# Altium schematic symbol library Schlib_Altera.SchLib: 17 symbols (part 4 of 4)
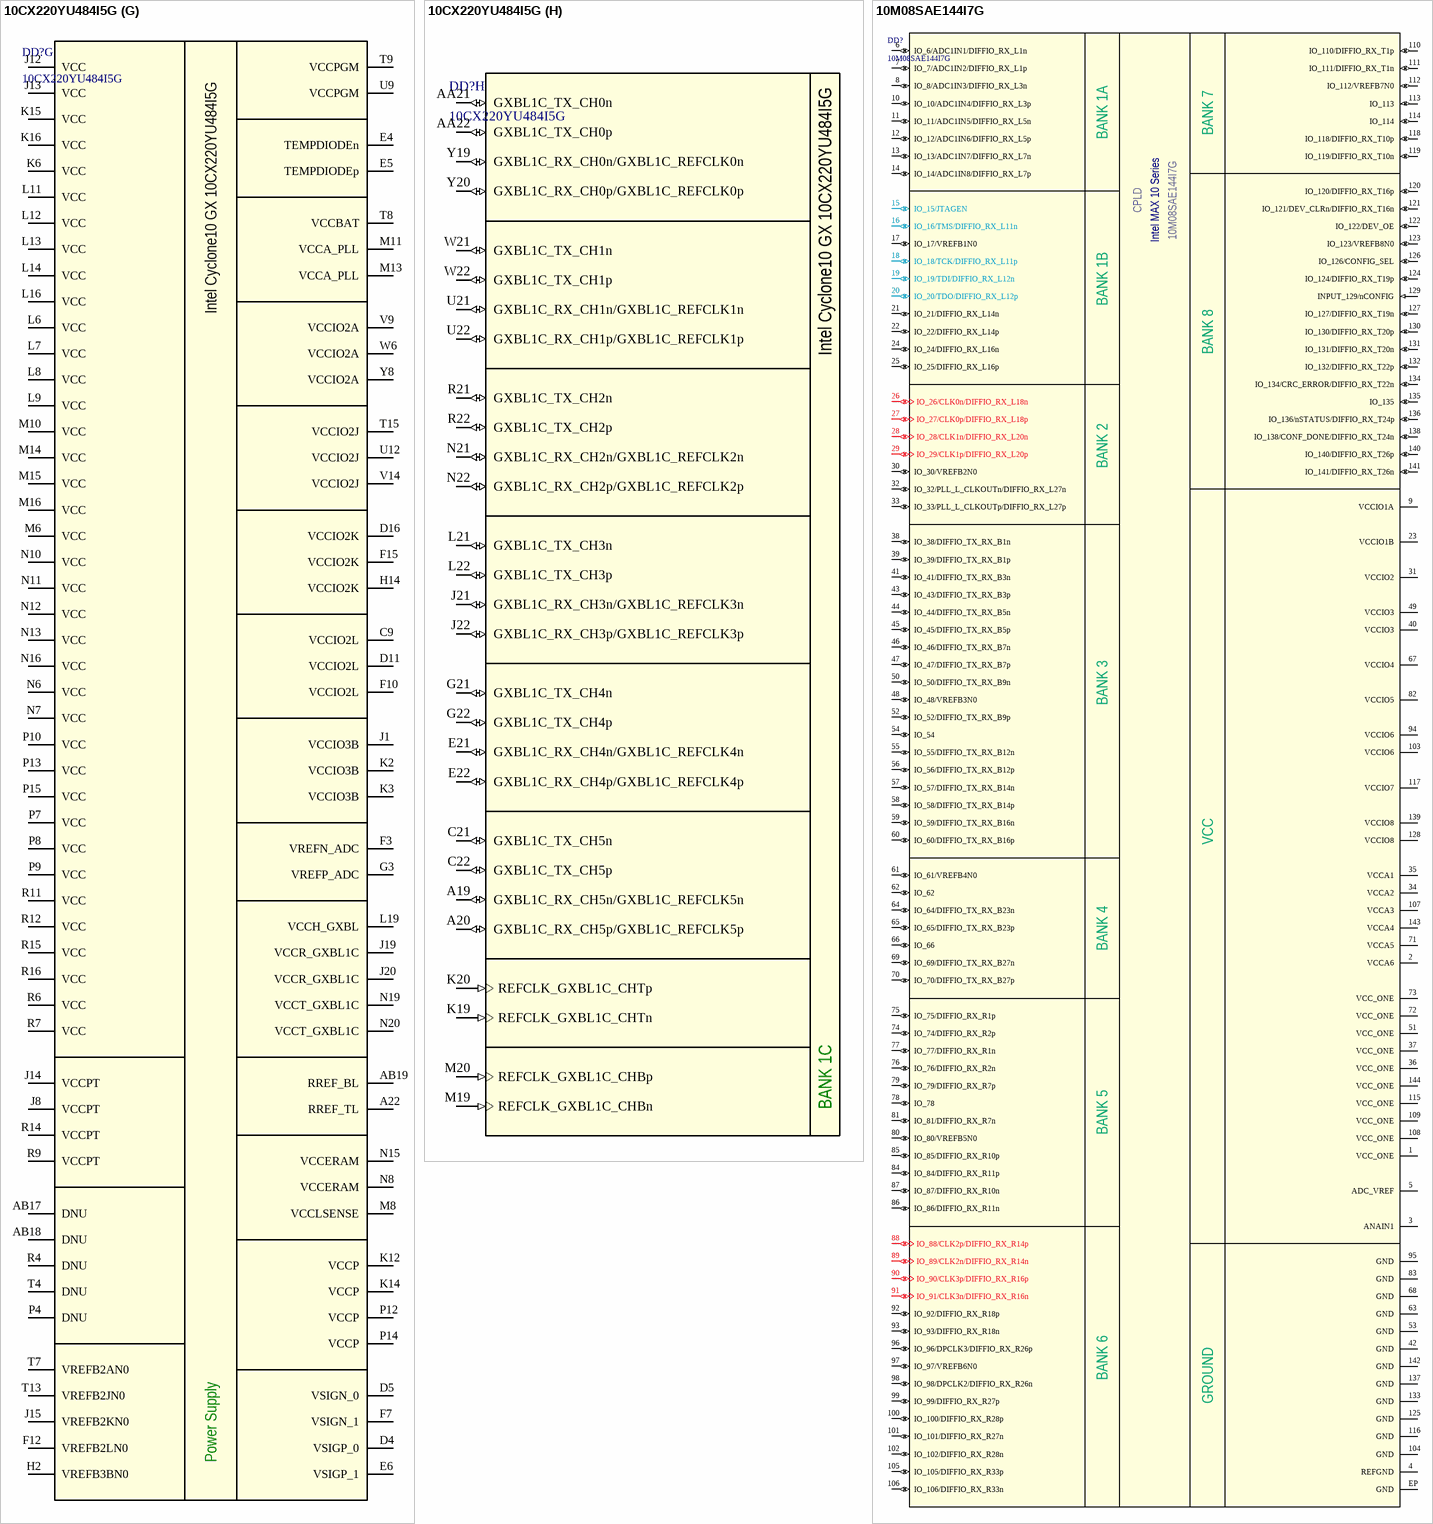
[diagram p27: symbols 10CX220YU484I5G to 10M08SAE144I7G]

## 10M08SAE144I7G
designator DD?
CPLD MAX 10 Series 8000 LEs; Manufacturer: Altera/Intel; Part Number: 10M08SAE144I7G; Package: EQFP-144
footprint LQFP-144EP (TSQFP, 144-Leads, Body 20,00x20,00mm, Pitch 0,50mm, IPC Medium Density)
pins: 1 VCC_ONE (power), 2 VCCA6 (power), 3 ANAIN1 (power), 4 REFGND (power), 5 ADC_VREF (power), 6 IO_6/ADC1IN1/DIFFIO_RX_L1n (io), 7 IO_7/ADC1IN2/DIFFIO_RX_L1p (io), 8 IO_8/ADC1IN3/DIFFIO_RX_L3n (io), 9 VCCIO1A (power), 10 IO_10/ADC1IN4/DIFFIO_RX_L3p (io), 11 IO_11/ADC1IN5/DIFFIO_RX_L5n (io), 12 IO_12/ADC1IN6/DIFFIO_RX_L5p (io), 13 IO_13/ADC1IN7/DIFFIO_RX_L7n (io), 14 IO_14/ADC1IN8/DIFFIO_RX_L7p (io), 15 IO_15/JTAGEN (io), 16 IO_16/TMS/DIFFIO_RX_L11n (io), 17 IO_17/VREFB1N0 (io), 18 IO_18/TCK/DIFFIO_RX_L11p (io), 19 IO_19/TDI/DIFFIO_RX_L12n (io), 20 IO_20/TDO/DIFFIO_RX_L12p (io), 21 IO_21/DIFFIO_RX_L14n (io), 22 IO_22/DIFFIO_RX_L14p (io), 23 VCCIO1B (power), 24 IO_24/DIFFIO_RX_L16n (io), 25 IO_25/DIFFIO_RX_L16p (io), 26 IO_26/CLK0n/DIFFIO_RX_L18n (io), 27 IO_27/CLK0p/DIFFIO_RX_L18p (io), 28 IO_28/CLK1n/DIFFIO_RX_L20n (io), 29 IO_29/CLK1p/DIFFIO_RX_L20p (io), 30 IO_30/VREFB2N0 (io), 31 VCCIO2 (power), 32 IO_32/PLL_L_CLKOUTn/DIFFIO_RX_L27n (io), 33 IO_33/PLL_L_CLKOUTp/DIFFIO_RX_L27p (io), 34 VCCA2 (power), 35 VCCA1 (power), 36 VCC_ONE (power), 37 VCC_ONE (power), 38 IO_38/DIFFIO_TX_RX_B1n (io), 39 IO_39/DIFFIO_TX_RX_B1p (io), 40 VCCIO3 (power), 41 IO_41/DIFFIO_TX_RX_B3n (io), 42 GND (power), 43 IO_43/DIFFIO_TX_RX_B3p (io), 44 IO_44/DIFFIO_TX_RX_B5n (io), 45 IO_45/DIFFIO_TX_RX_B5p (io), 46 IO_46/DIFFIO_TX_RX_B7n (io), 47 IO_47/DIFFIO_TX_RX_B7p (io), 48 IO_48/VREFB3N0 (io), 49 VCCIO3 (power), 50 IO_50/DIFFIO_TX_RX_B9n (io), 51 VCC_ONE (power), 52 IO_52/DIFFIO_TX_RX_B9p (io), 53 GND (power), 54 IO_54 (io), 55 IO_55/DIFFIO_TX_RX_B12n (io), 56 IO_56/DIFFIO_TX_RX_B12p (io), 57 IO_57/DIFFIO_TX_RX_B14n (io), 58 IO_58/DIFFIO_TX_RX_B14p (io), 59 IO_59/DIFFIO_TX_RX_B16n (io), 60 IO_60/DIFFIO_TX_RX_B16p (io), 61 IO_61/VREFB4N0 (io), 62 IO_62 (io), 63 GND (power), 64 IO_64/DIFFIO_TX_RX_B23n (io), 65 IO_65/DIFFIO_TX_RX_B23p (io), 66 IO_66 (io), 67 VCCIO4 (power), 68 GND (power), 69 IO_69/DIFFIO_TX_RX_B27n (io), 70 IO_70/DIFFIO_TX_RX_B27p (io), 71 VCCA5 (power), 72 VCC_ONE (power), 73 VCC_ONE (power), 74 IO_74/DIFFIO_RX_R2p (io), 75 IO_75/DIFFIO_RX_R1p (io), 76 IO_76/DIFFIO_RX_R2n (io), 77 IO_77/DIFFIO_RX_R1n (io), 78 IO_78 (io), 79 IO_79/DIFFIO_RX_R7p (io), 80 IO_80/VREFB5N0 (io), 81 IO_81/DIFFIO_RX_R7n (io), 82 VCCIO5 (power), 83 GND (power), 84 IO_84/DIFFIO_RX_R11p (io), 85 IO_85/DIFFIO_RX_R10p (io), 86 IO_86/DIFFIO_RX_R11n (io), 87 IO_87/DIFFIO_RX_R10n (io), 88 IO_88/CLK2p/DIFFIO_RX_R14p (io), 89 IO_89/CLK2n/DIFFIO_RX_R14n (io), 90 IO_90/CLK3p/DIFFIO_RX_R16p (io), 91 IO_91/CLK3n/DIFFIO_RX_R16n (io), 92 IO_92/DIFFIO_RX_R18p (io), 93 IO_93/DIFFIO_RX_R18n (io), 94 VCCIO6 (power), 95 GND (power), 96 IO_96/DPCLK3/DIFFIO_RX_R26p (io), 97 IO_97/VREFB6N0 (io), 98 IO_98/DPCLK2/DIFFIO_RX_R26n (io), 99 IO_99/DIFFIO_RX_R27p (io), 100 IO_100/DIFFIO_RX_R28p (io), 101 IO_101/DIFFIO_RX_R27n (io), 102 IO_102/DIFFIO_RX_R28n (io), 103 VCCIO6 (power), 104 GND (power), 105 IO_105/DIFFIO_RX_R33p (io), 106 IO_106/DIFFIO_RX_R33n (io), 107 VCCA3 (power), 108 VCC_ONE (power), 109 VCC_ONE (power), 110 IO_110/DIFFIO_RX_T1p (io), 111 IO_111/DIFFIO_RX_T1n (io), 112 IO_112/VREFB7N0 (io), 113 IO_113 (io), 114 IO_114 (io), 115 VCC_ONE (power), 116 GND (power), 117 VCCIO7 (power), 118 IO_118/DIFFIO_RX_T10p (io), 119 IO_119/DIFFIO_RX_T10n (io), 120 IO_120/DIFFIO_RX_T16p (io), 121 IO_121/DEV_CLRn/DIFFIO_RX_T16n (io), 122 IO_122/DEV_OE (io), 123 IO_123/VREFB8N0 (io), 124 IO_124/DIFFIO_RX_T19p (io), 125 GND (power), 126 IO_126/CONFIG_SEL (io), 127 IO_127/DIFFIO_RX_T19n (io), 128 VCCIO8 (power), 129 INPUT_129/nCONFIG (in), 130 IO_130/DIFFIO_RX_T20p (io), 131 IO_131/DIFFIO_RX_T20n (io), 132 IO_132/DIFFIO_RX_T22p (io), 133 GND (power), 134 IO_134/CRC_ERROR/DIFFIO_RX_T22n (io), 135 IO_135 (io), 136 IO_136/nSTATUS/DIFFIO_RX_T24p (io), 137 GND (power), 138 IO_138/CONF_DONE/DIFFIO_RX_T24n (io), 139 VCCIO8 (power), 140 IO_140/DIFFIO_RX_T26p (io), 141 IO_141/DIFFIO_RX_T26n (io), 142 GND (power), 143 VCCA4 (power), 144 VCC_ONE (power), EP GND (power)
text: BANK 1A; BANK 7; CPLD; Intel MAX 10 Series; BANK 1B; BANK 8; BANK 2; BANK 3; VCC; BANK 4; BANK 5; BANK 6; GROUND

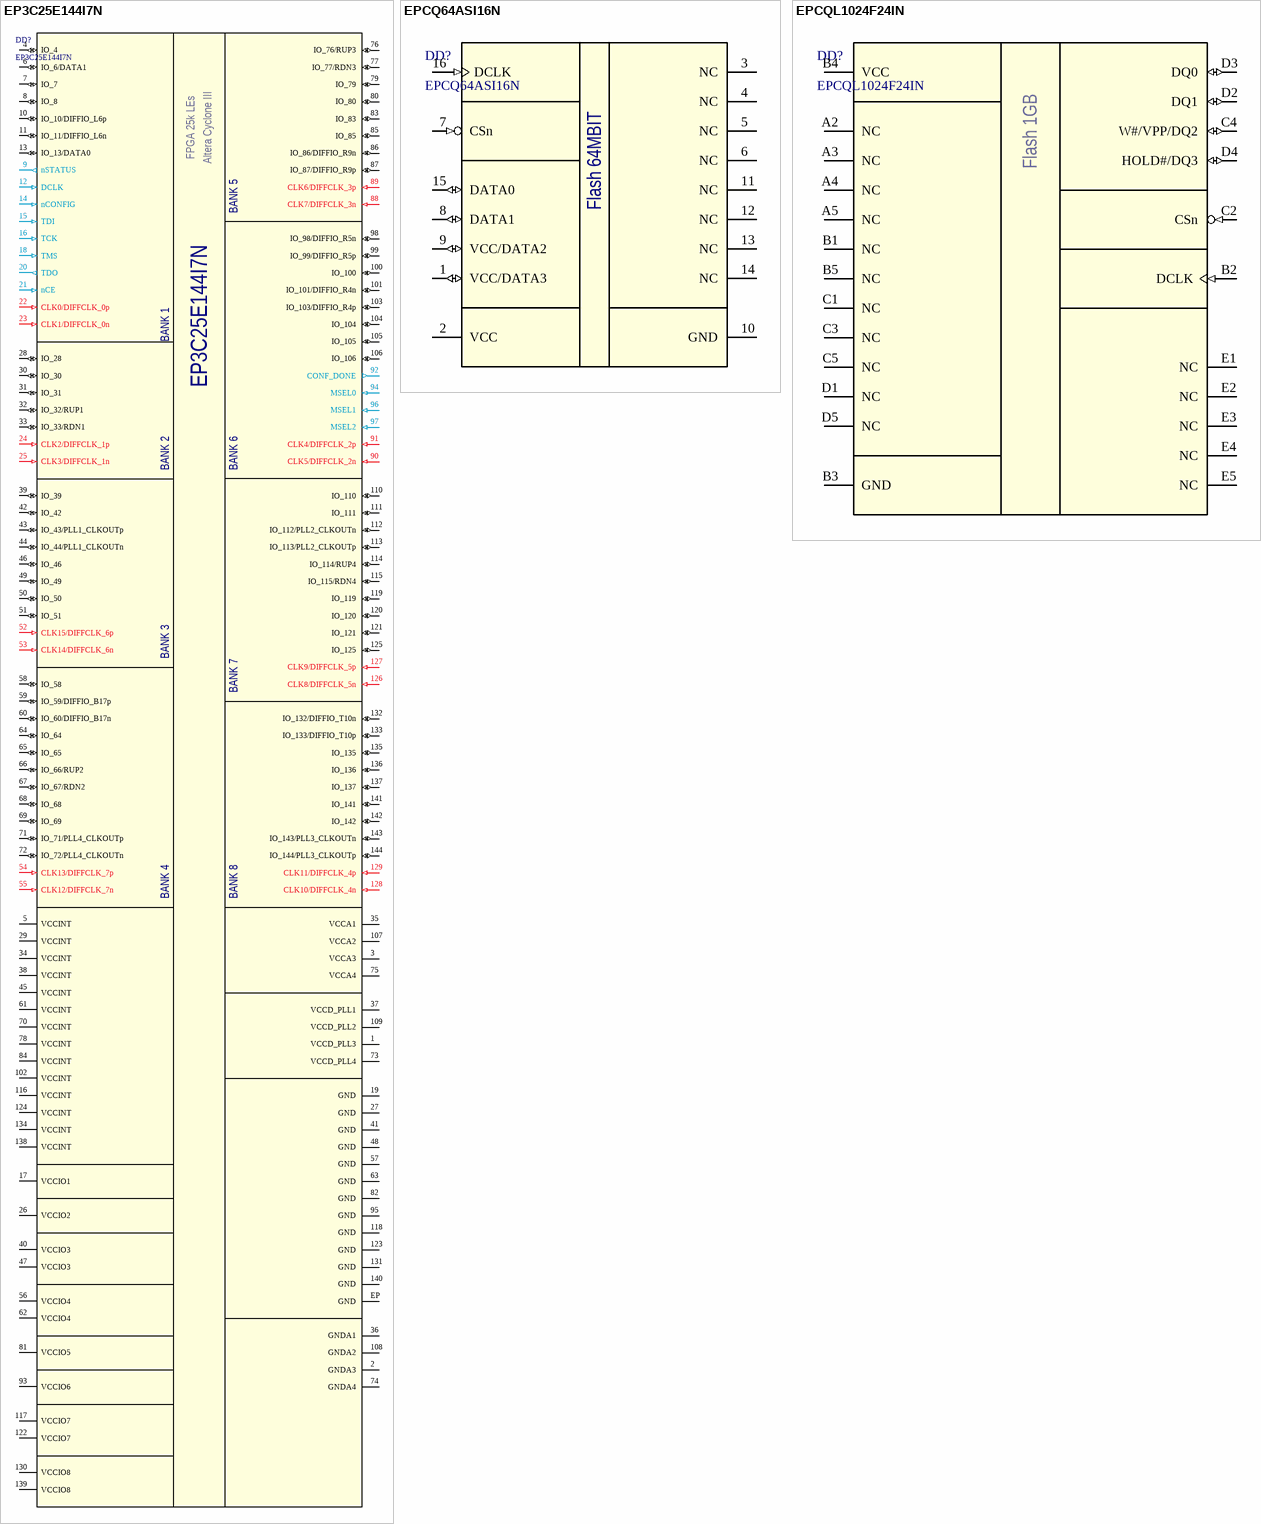
[diagram p23: symbols EP3C25E144I7N to EPCQL1024F24IN]

## EP3C25E144I7N
designator DD?
Altera Cyclone III FPGA with 25k LEs; Manufacturer: Altera/Intel; Part Number: EP3C25E144I7N; Package: LQFP-144 (with Exposed Pad)
footprint LQFP-144EP (TSQFP, 144-Leads, Body 20,00x20,00mm, Pitch 0,50mm, IPC Medium Density)
pins: 1 VCCD_PLL3 (power), 2 GNDA3 (power), 3 VCCA3 (power), 4 IO_4 (io), 5 VCCINT (power), 6 IO_6/DATA1 (io), 7 IO_7 (io), 8 IO_8 (io), 9 nSTATUS (out), 10 IO_10/DIFFIO_L6p (io), 11 IO_11/DIFFIO_L6n (io), 12 DCLK (in), 13 IO_13/DATA0 (io), 14 nCONFIG (in), 15 TDI (in), 16 TCK (in), 17 VCCIO1 (power), 18 TMS (in), 19 GND (power), 20 TDO (out), 21 nCE (in), 22 CLK0/DIFFCLK_0p (in), 23 CLK1/DIFFCLK_0n (in), 24 CLK2/DIFFCLK_1p (in), 25 CLK3/DIFFCLK_1n (in), 26 VCCIO2 (power), 27 GND (power), 28 IO_28 (io), 29 VCCINT (power), 30 IO_30 (io), 31 IO_31 (io), 32 IO_32/RUP1 (io), 33 IO_33/RDN1 (io), 34 VCCINT (power), 35 VCCA1 (power), 36 GNDA1 (power), 37 VCCD_PLL1 (power), 38 VCCINT (power), 39 IO_39 (io), 40 VCCIO3 (power), 41 GND (power), 42 IO_42 (io), 43 IO_43/PLL1_CLKOUTp (io), 44 IO_44/PLL1_CLKOUTn (io), 45 VCCINT (power), 46 IO_46 (io), 47 VCCIO3 (power), 48 GND (power), 49 IO_49 (io), 50 IO_50 (io), 51 IO_51 (io), 52 CLK15/DIFFCLK_6p (in), 53 CLK14/DIFFCLK_6n (in), 54 CLK13/DIFFCLK_7p (in), 55 CLK12/DIFFCLK_7n (in), 56 VCCIO4 (power), 57 GND (power), 58 IO_58 (io), 59 IO_59/DIFFIO_B17p (io), 60 IO_60/DIFFIO_B17n (io), 61 VCCINT (power), 62 VCCIO4 (power), 63 GND (power), 64 IO_64 (io), 65 IO_65 (io), 66 IO_66/RUP2 (io), 67 IO_67/RDN2 (io), 68 IO_68 (io), 69 IO_69 (io), 70 VCCINT (power), 71 IO_71/PLL4_CLKOUTp (io), 72 IO_72/PLL4_CLKOUTn (io), 73 VCCD_PLL4 (power), 74 GNDA4 (power), 75 VCCA4 (power), 76 IO_76/RUP3 (io), 77 IO_77/RDN3 (io), 78 VCCINT (power), 79 IO_79 (io), 80 IO_80 (io), 81 VCCIO5 (power), 82 GND (power), 83 IO_83 (io), 84 VCCINT (power), 85 IO_85 (io), 86 IO_86/DIFFIO_R9n (io), 87 IO_87/DIFFIO_R9p (io), 88 CLK7/DIFFCLK_3n (in), 89 CLK6/DIFFCLK_3p (in), 90 CLK5/DIFFCLK_2n (in), 91 CLK4/DIFFCLK_2p (in), 92 CONF_DONE (out), 93 VCCIO6 (power), 94 MSEL0 (in), 95 GND (power), 96 MSEL1 (in), 97 MSEL2 (in), 98 IO_98/DIFFIO_R5n (io), 99 IO_99/DIFFIO_R5p (io), 100 IO_100 (io), 101 IO_101/DIFFIO_R4n (io), 102 VCCINT (power), 103 IO_103/DIFFIO_R4p (io), 104 IO_104 (io), 105 IO_105 (io), 106 IO_106 (io), 107 VCCA2 (power), 108 GNDA2 (power), 109 VCCD_PLL2 (power), 110 IO_110 (io), 111 IO_111 (io), 112 IO_112/PLL2_CLKOUTn (io), 113 IO_113/PLL2_CLKOUTp (io), 114 IO_114/RUP4 (io), 115 IO_115/RDN4 (io), 116 VCCINT (power), 117 VCCIO7 (power), 118 GND (power), 119 IO_119 (io), 120 IO_120 (io), 121 IO_121 (io), 122 VCCIO7 (power), 123 GND (power), 124 VCCINT (power), 125 IO_125 (io), 126 CLK8/DIFFCLK_5n (in), 127 CLK9/DIFFCLK_5p (in), 128 CLK10/DIFFCLK_4n (in), 129 CLK11/DIFFCLK_4p (in), 130 VCCIO8 (power), 131 GND (power), 132 IO_132/DIFFIO_T10n (io), 133 IO_133/DIFFIO_T10p (io), 134 VCCINT (power), 135 IO_135 (io), 136 IO_136 (io), 137 IO_137 (io), 138 VCCINT (power), 139 VCCIO8 (power), 140 GND (power), 141 IO_141 (io), 142 IO_142 (io), 143 IO_143/PLL3_CLKOUTn (io), 144 IO_144/PLL3_CLKOUTp (io), EP GND (power)
text: FPGA 25k LEs; Altera Cyclone III; BANK 5; BANK 1; BANK 2; BANK 6; BANK 3; BANK 7; BANK 4; BANK 8

## EPCQ64ASI16N
designator DD?
Serial Configuration Devices for FPGA (Memory Size 64MBIT ); Manufacturer: Altera/Intel; Part Number: EPCQ64ASI16N; Package: SOIC-16
footprint SOIC-16N (SOIC, 16-Leads, Body 10.29x7.49mm, Pitch 1.27mm, IPC Medium Density)
footprint SOIC-16N(WITH SO-8, EPCS64 Only) (SOIC, 16-Leads, Body 10.29x7.49mm, Pitch 1.27mm, IPC Medium Density)
pins: 1 VCC/DATA3 (io), 2 VCC (power), 3 NC (hiz), 4 NC (hiz), 5 NC (hiz), 6 NC (hiz), 7 CSn (in), 8 DATA1 (io), 9 VCC/DATA2 (io), 10 GND (power), 11 NC (hiz), 12 NC (hiz), 13 NC (hiz), 14 NC (hiz), 15 DATA0 (io), 16 DCLK (in)
text: Flash 64MBIT

## EPCQL1024F24IN
designator DD?
Serial Configuration Devices for FPGA (Memory Size 1GB); Manufacturer: Altera/Intel; Part Number: EPCQL1024F24IN; Package: LBGA-24
footprint LBGA-24 (LBGA-24 package with 1mm pitch for EPCQL1024F24IN device)
pins: A2 NC (hiz), A3 NC (hiz), A4 NC (hiz), A5 NC (hiz), B1 NC (hiz), B2 DCLK (in), B3 GND (power), B4 VCC, B5 NC (hiz), C1 NC (hiz), C2 CSn (in), C3 NC (hiz), C4 W#/VPP/DQ2 (io), C5 NC (hiz), D1 NC (hiz), D2 DQ1 (io), D3 DQ0 (io), D4 HOLD#/DQ3 (io), D5 NC (hiz), E1 NC (hiz), E2 NC (hiz), E3 NC (hiz), E4 NC (hiz), E5 NC (hiz)
text: Flash 1GB

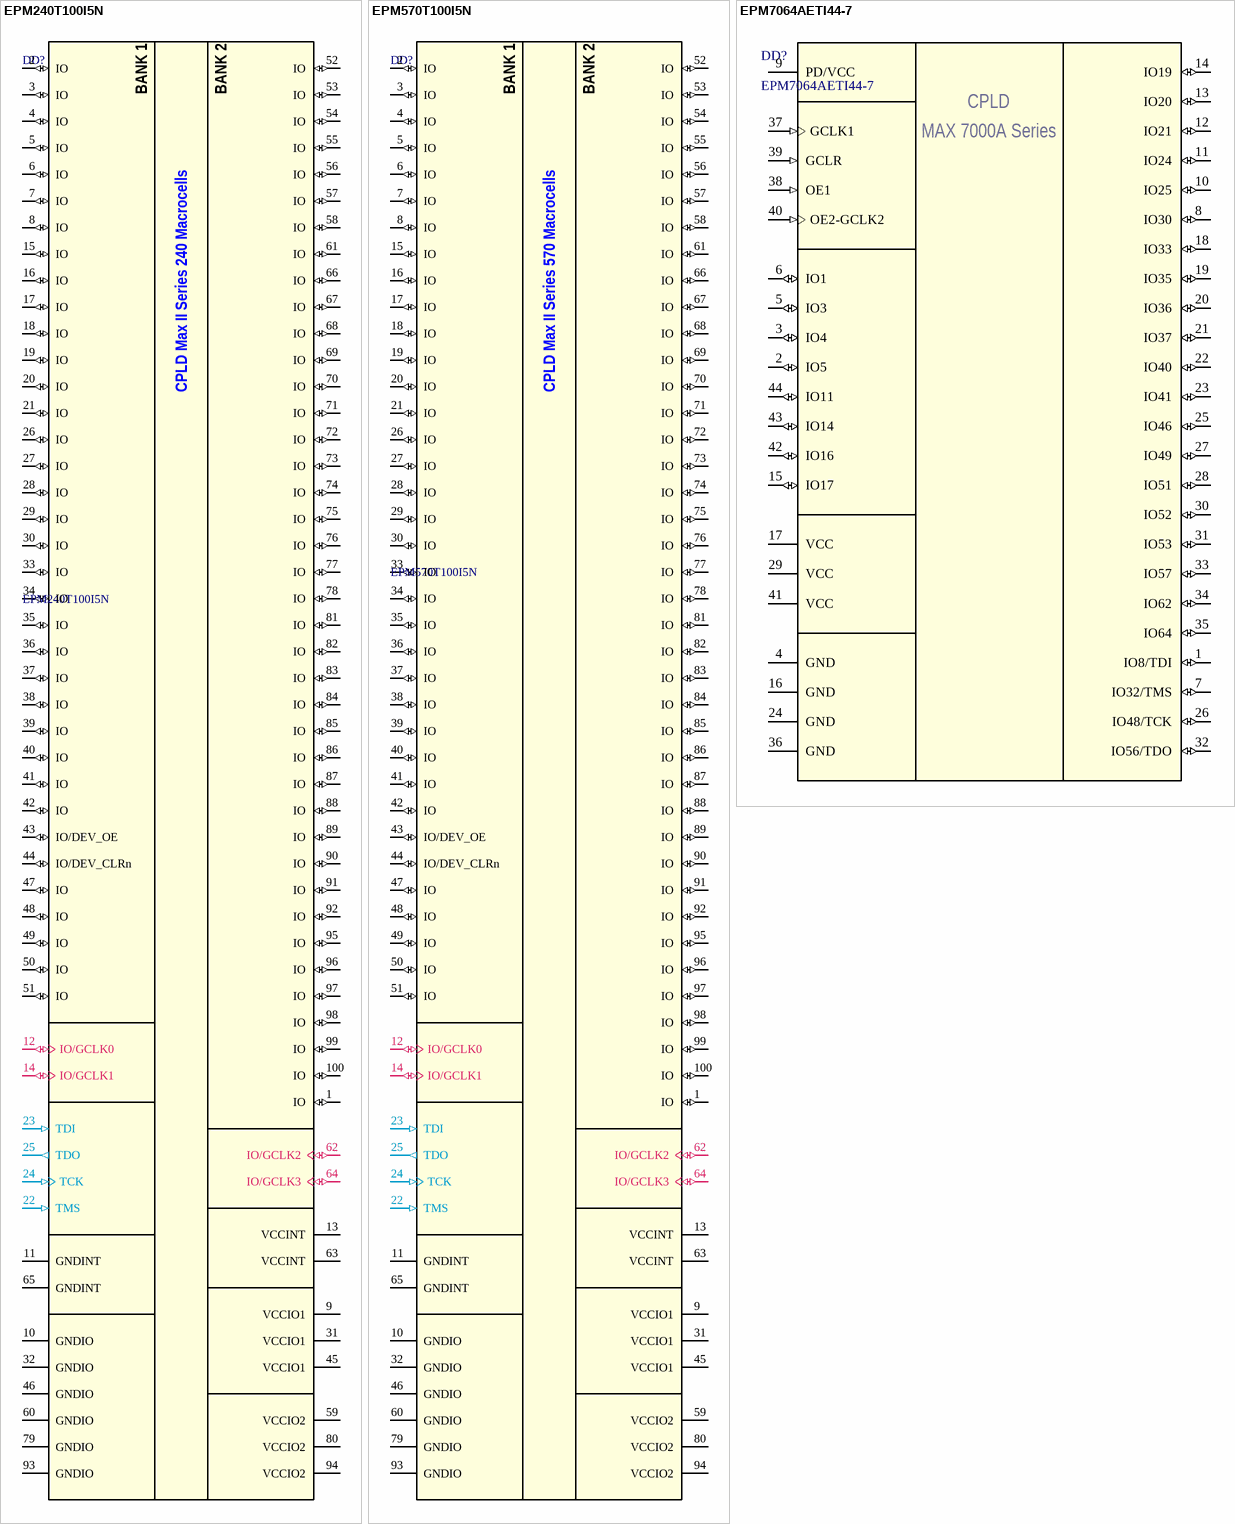
[diagram p24: symbols EPM240T100I5N to EPM7064AETI44-7]

## EPM240T100I5N
designator DD?
MAX II 3.3/2.5V CPLD, 80 IOs, 240 Logic Elements, 100-Pin Plastic TQFP, Industrial Temperature, Speed Grade 5, Pb-Free; Note: Each set of VCCIO pins can be connected to 3.3V, 2.5V, 1.8V, or 1.5V.; Note: All VCCINT pins must be connected to either 3.3V or 2.5V (but not a combination of both).; DatasheetVersion: ver1.8, Jul-2006; PackageVersion: ver16.3, Dec-2010; PackageReference: TQFP100; PackageDescription: 100-Pin Plastic Thin Quad Flat Pack (TQFP100) - Wire Bond; Code_JEDEC: MS-026-AED; ComponentLink1Description: Manufacturer URL; ComponentLink1URL: http://www.altera.com/; ComponentLink2Description: Handbook; ComponentLink2URL: http://www.altera.com/literature/hb/max2/max2_mii5v1.pdf; ComponentLink3Description: Package Specification; ComponentLink3URL: http://www.altera.com/literature/ds/dspkg.pdf; PartNumber: EPM240T100I5N
footprint TQFP100 (Thin QFP, 100-Leads, Body 14x14mm, Pitch 0.5mm, IPC Low Density)
pins: 1 IO (io), 2 IO (io), 3 IO (io), 4 IO (io), 5 IO (io), 6 IO (io), 7 IO (io), 8 IO (io), 9 VCCIO1 (power), 10 GNDIO (power), 11 GNDINT (power), 12 IO/GCLK0 (io), 13 VCCINT (power), 14 IO/GCLK1 (io), 15 IO (io), 16 IO (io), 17 IO (io), 18 IO (io), 19 IO (io), 20 IO (io), 21 IO (io), 22 TMS (in), 23 TDI (in), 24 TCK (in), 25 TDO (out), 26 IO (io), 27 IO (io), 28 IO (io), 29 IO (io), 30 IO (io), 31 VCCIO1 (power), 32 GNDIO (power), 33 IO (io), 34 IO (io), 35 IO (io), 36 IO (io), 37 IO (io), 38 IO (io), 39 IO (io), 40 IO (io), 41 IO (io), 42 IO (io), 43 IO/DEV_OE (io), 44 IO/DEV_CLRn (io), 45 VCCIO1 (power), 46 GNDIO (power), 47 IO (io), 48 IO (io), 49 IO (io), 50 IO (io), 51 IO (io), 52 IO (io), 53 IO (io), 54 IO (io), 55 IO (io), 56 IO (io), 57 IO (io), 58 IO (io), 59 VCCIO2 (power), 60 GNDIO (power), 61 IO (io), 62 IO/GCLK2 (io), 63 VCCINT (power), 64 IO/GCLK3 (io), 65 GNDINT (power), 66 IO (io), 67 IO (io), 68 IO (io), 69 IO (io), 70 IO (io), 71 IO (io), 72 IO (io), 73 IO (io), 74 IO (io), 75 IO (io), 76 IO (io), 77 IO (io), 78 IO (io), 79 GNDIO (power), 80 VCCIO2 (power), 81 IO (io), 82 IO (io), 83 IO (io), 84 IO (io), 85 IO (io), 86 IO (io), 87 IO (io), 88 IO (io), 89 IO (io), 90 IO (io), 91 IO (io), 92 IO (io), 93 GNDIO (power), 94 VCCIO2 (power), 95 IO (io), 96 IO (io), 97 IO (io), 98 IO (io), 99 IO (io), 100 IO (io)
text: BANK 1; BANK 2; CPLD Max II Series 240 Macrocells

## EPM570T100I5N
designator DD?
MAX II 3.3/2.5V CPLD, 76 IOs, 570 Logic Elements, 100-Pin Plastic TQFP, Industrial Temperature, Speed Grade 5, Pb-Free; Note: Each set of VCCIO pins can be connected to 3.3V, 2.5V, 1.8V, or 1.5V.; Note: All VCCINT pins must be connected to either 3.3V or 2.5V (but not a combination of both).; DatasheetVersion: ver1.8, Jul-2006; PackageVersion: ver16.3, Dec-2010; PackageReference: TQFP100; PackageDescription: 100-Pin Plastic Thin Quad Flat Pack (TQFP100) - Wire Bond; Code_JEDEC: MS-026-AED; ComponentLink1Description: Manufacturer URL; ComponentLink1URL: http://www.altera.com/; ComponentLink2Description: Handbook; ComponentLink2URL: http://www.altera.com/literature/hb/max2/max2_mii5v1.pdf; ComponentLink3Description: Package Specification; ComponentLink3URL: http://www.altera.com/literature/ds/dspkg.pdf; PartNumber: EPM570T100I5N
footprint TQFP100 (Thin QFP, 100-Leads, Body 14x14mm, Pitch 0.5mm, IPC Low Density)
pins: 1 IO (io), 2 IO (io), 3 IO (io), 4 IO (io), 5 IO (io), 6 IO (io), 7 IO (io), 8 IO (io), 9 VCCIO1 (power), 10 GNDIO (power), 11 GNDINT (power), 12 IO/GCLK0 (io), 13 VCCINT (power), 14 IO/GCLK1 (io), 15 IO (io), 16 IO (io), 17 IO (io), 18 IO (io), 19 IO (io), 20 IO (io), 21 IO (io), 22 TMS (in), 23 TDI (in), 24 TCK (in), 25 TDO (out), 26 IO (io), 27 IO (io), 28 IO (io), 29 IO (io), 30 IO (io), 31 VCCIO1 (power), 32 GNDIO (power), 33 IO (io), 34 IO (io), 35 IO (io), 36 IO (io), 37 IO (io), 38 IO (io), 39 IO (io), 40 IO (io), 41 IO (io), 42 IO (io), 43 IO/DEV_OE (io), 44 IO/DEV_CLRn (io), 45 VCCIO1 (power), 46 GNDIO (power), 47 IO (io), 48 IO (io), 49 IO (io), 50 IO (io), 51 IO (io), 52 IO (io), 53 IO (io), 54 IO (io), 55 IO (io), 56 IO (io), 57 IO (io), 58 IO (io), 59 VCCIO2 (power), 60 GNDIO (power), 61 IO (io), 62 IO/GCLK2 (io), 63 VCCINT (power), 64 IO/GCLK3 (io), 65 GNDINT (power), 66 IO (io), 67 IO (io), 68 IO (io), 69 IO (io), 70 IO (io), 71 IO (io), 72 IO (io), 73 IO (io), 74 IO (io), 75 IO (io), 76 IO (io), 77 IO (io), 78 IO (io), 79 GNDIO (power), 80 VCCIO2 (power), 81 IO (io), 82 IO (io), 83 IO (io), 84 IO (io), 85 IO (io), 86 IO (io), 87 IO (io), 88 IO (io), 89 IO (io), 90 IO (io), 91 IO (io), 92 IO (io), 93 GNDIO (power), 94 VCCIO2 (power), 95 IO (io), 96 IO (io), 97 IO (io), 98 IO (io), 99 IO (io), 100 IO (io)
text: BANK 1; BANK 2; CPLD Max II Series 570 Macrocells

## EPM7064AETI44-7
designator DD?
CPLD Max 7000A Series 64 Macrocells; Manufacturer: Altera/Intel; Part Number: EPM7064AETI44-7; Package: TQFP44
footprint TQFP-44 (TQFP-44 10x10mm package with 0.8mm pitch)
pins: 1 IO8/TDI (io), 2 IO5 (io), 3 IO4 (io), 4 GND (power), 5 IO3 (io), 6 IO1 (io), 7 IO32/TMS (io), 8 IO30 (io), 9 PD/VCC, 10 IO25 (io), 11 IO24 (io), 12 IO21 (io), 13 IO20 (io), 14 IO19 (io), 15 IO17 (io), 16 GND (power), 17 VCC (power), 18 IO33 (io), 19 IO35 (io), 20 IO36 (io), 21 IO37 (io), 22 IO40 (io), 23 IO41 (io), 24 GND (power), 25 IO46 (io), 26 IO48/TCK (io), 27 IO49 (io), 28 IO51 (io), 29 VCC (power), 30 IO52 (io), 31 IO53 (io), 32 IO56/TDO (io), 33 IO57 (io), 34 IO62 (io), 35 IO64 (io), 36 GND (power), 37 GCLK1 (in), 38 OE1 (in), 39 GCLR (in), 40 OE2-GCLK2 (in), 41 VCC (power), 42 IO16 (io), 43 IO14 (io), 44 IO11 (io)
text: CPLD; MAX 7000A Series